# Altium footprint library SPB_IC_Footprints.PcbLib: 4 footprints
Each footprint in its own frame and in the unit in brackets; x right, y up, seen from the top. Pads: shape width x height; smd on the part's side, far side on the other; paste and mask are expansions set on the pad; w line width, h text height; cw(c..) or ccw(c..) is an arc to the next point about the centre after c.
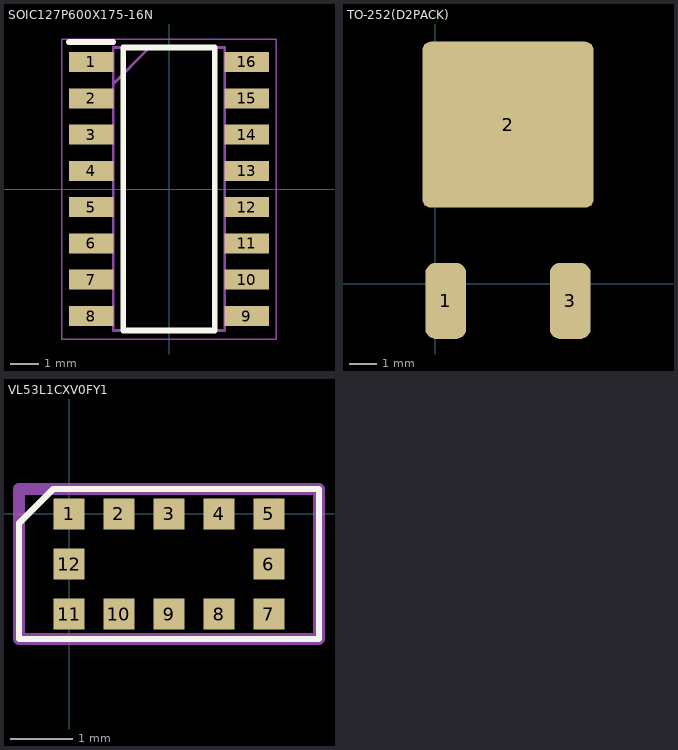
[diagram p0: the footprints below, top view; thin cyan lines are the x and y axes]

## PCBComponent_1 [mm]

## SOIC127P600X175-16N [mm]
pads (16):
  rect 1.55x0.7 smd: 1(-2.725,4.445) 2(-2.725,3.175) 3(-2.725,1.905) 4(-2.725,0.635) 5(-2.725,-0.635) 6(-2.725,-1.905) 7(-2.725,-3.175) 8(-2.725,-4.445) 9(2.725,-4.445) 10(2.725,-3.175) 11(2.725,-1.905) 12(2.725,-0.635) 13(2.725,0.635) 14(2.725,1.905) 15(2.725,3.175) 16(2.725,4.445)
Top Overlay:
  lines w0.2: -3.5,5.145 -1.95,5.145 ; -1.6,-4.95 -1.6,4.95 1.6,4.95 1.6,-4.95 -1.6,-4.95
Mechanical 13:
  lines w0.1: -1.95,3.68 -0.68,4.95 ; -1.95,-4.95 -1.95,4.95 1.95,4.95 1.95,-4.95 -1.95,-4.95
Mechanical 15:
  lines w0.05: -3.75,-5.25 -3.75,5.25 3.75,5.25 3.75,-5.25 -3.75,-5.25
3D body "74HC595D.stp": height 1.75, standoff 0, extent -3,-4.95 3,4.95

## TO-252(D2PACK) [mm] "DPAK, SMT package"
height 4.5
pads (3):
  rrect50% 1.5x2.8 smd: 1(0.381,-0.635) 3(4.953,-0.635)
  rrect10% 6.3x6.1 smd: 2(2.667,5.842)
3D body "TO-252-Dpak.STEP": height 2.26, standoff -0.03, extent -0.623,-1.53 5.957,8.45

## VL53L1CXV0FY1 [mm]
pads (12):
  rect 0.5x0.5 smd: 1(0,0) 2(0.8,0) 3(1.6,0) 4(2.4,0) 5(3.2,0) 6(3.2,-0.8) 7(3.2,-1.6) 8(2.4,-1.6) 9(1.6,-1.6) 10(0.8,-1.6) 11(0,-1.6) 12(0,-0.8)
Top Overlay:
  lines w0.1: -0.8,-2 -0.8,-0.15 -0.25,0.4 4,0.4 4,-2 -0.8,-2
Mechanical 13:
  lines w0.2: -0.8,-2 4,-2 4,0.4 -0.8,0.4 -0.8,-2
3D body "VL53L1CXV0FY_1.stp": height 1.1, standoff 0, extent -0.8,-2 4,0.4